# EAGLE library part MAX5394 (library ck)
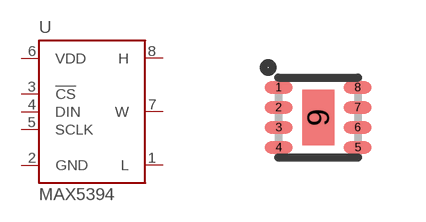
[diagram p0: symbol with the pads of 8-TDFN-EP; footprint 8-TDFN-EP]

Designator prefix U

## MAX5394  [8-TDFN-EP]
1  L
2  GND  pwr
3  !CS  in
4  DIN  in
5  SCLK  in
6  VDD  pwr
7  W
8  H

## Footprint 8-TDFN-EP (pad centres in mm)
TDFN - 8pin, 2mmx3mm
smd 0.7 x 0.3: 1 -0.99,0.75; 2 -0.99,0.25; 3 -0.99,-0.25; 4 -0.99,-0.75; 5 0.99,-0.75; 6 0.99,-0.25; 7 0.99,0.25; 8 0.99,0.75
smd 0.8 x 1.38: 9 0,0